# Altium footprint library HD2.PcbLib: 40 footprints (part 2 of 3)
Each footprint in its own frame and in the unit in brackets; x right, y up, seen from the top. Pads: shape width x height; smd on the part's side, far side on the other; paste and mask are expansions set on the pad; w line width, h text height; cw(c..) or ccw(c..) is an arc to the next point about the centre after c.
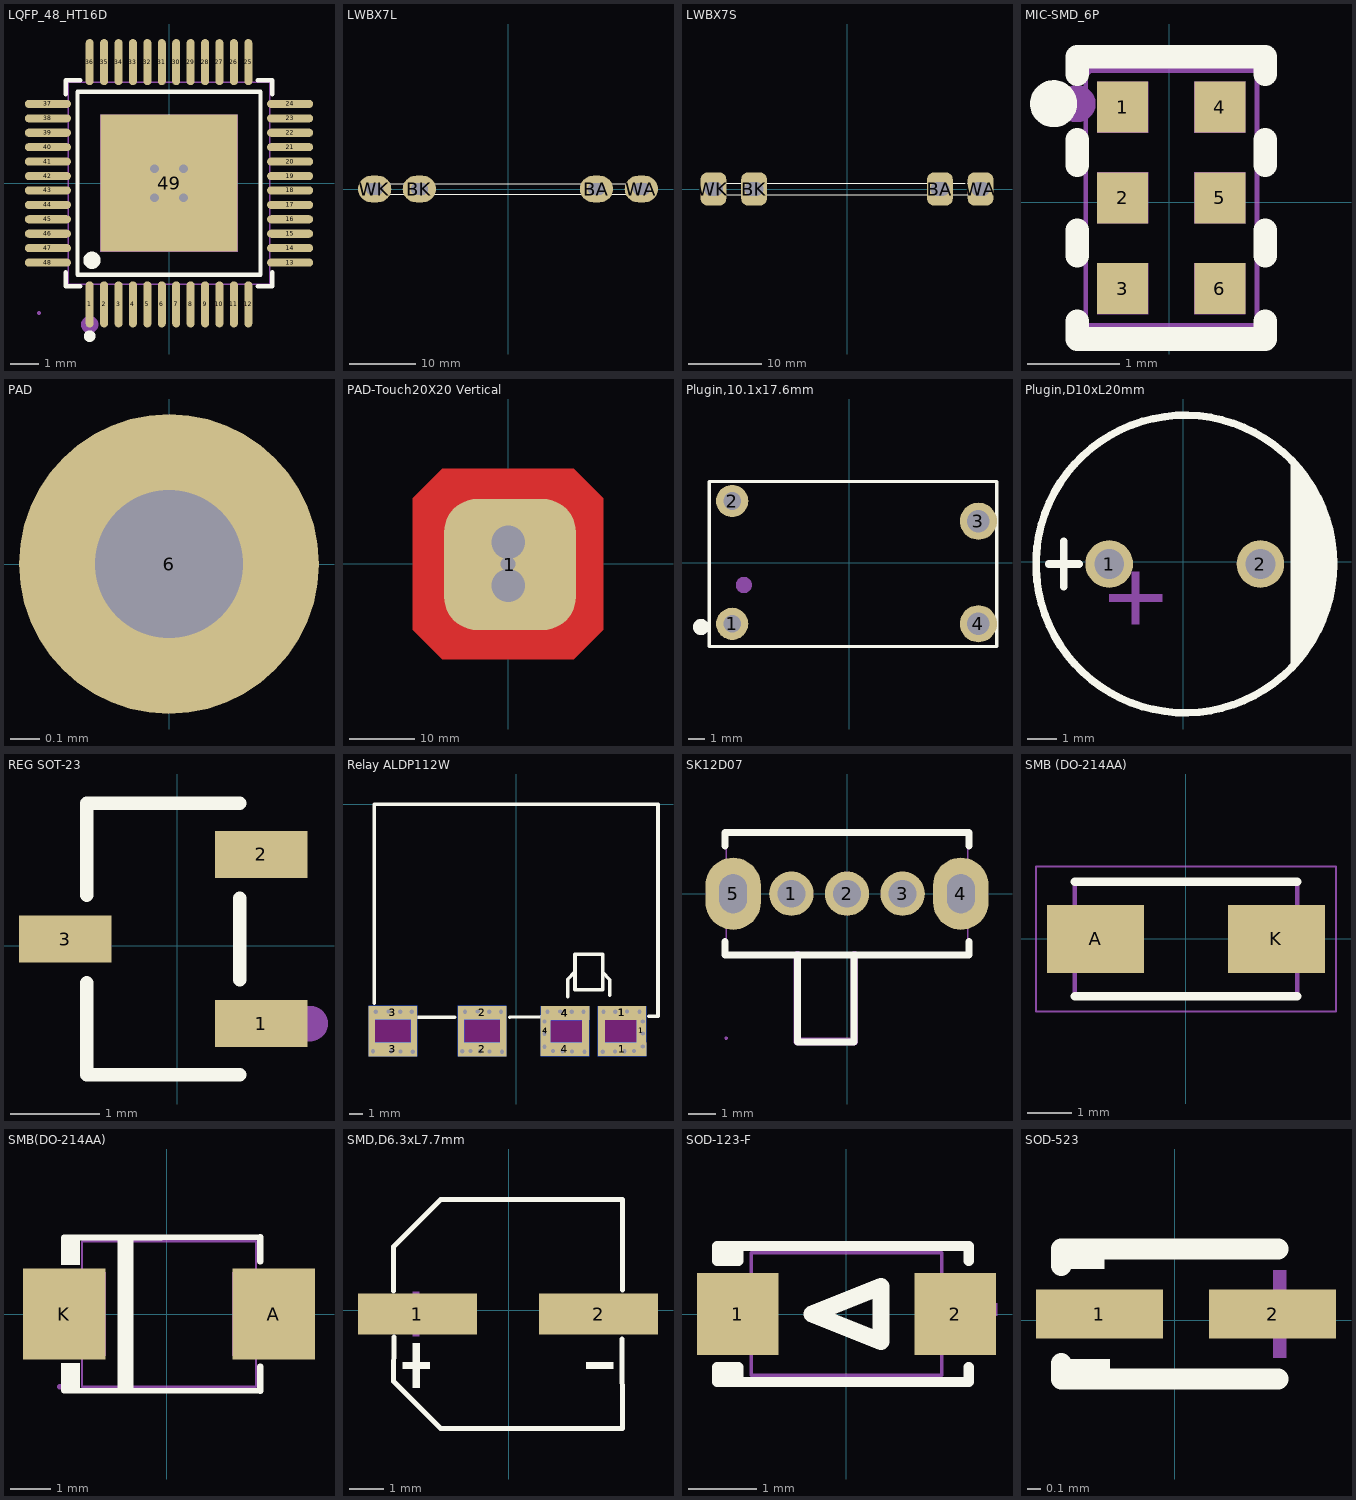
[diagram p1: the footprints below, top view; thin cyan lines are the x and y axes]

## LQFP_48_HT16D [mm]
pads (49):
  oval 0.28x1.6 smd paste-100 mask+0.051: 1(-2.75,-4.2) 2(-2.25,-4.2) 3(-1.75,-4.2) 4(-1.25,-4.2) 5(-0.75,-4.2) 6(-0.25,-4.2) 7(0.25,-4.2) 8(0.75,-4.2) 9(1.25,-4.2) 10(1.75,-4.2) 11(2.25,-4.2) 12(2.75,-4.2) 25(2.75,4.2) 26(2.25,4.2) 27(1.75,4.2) 28(1.25,4.2) 29(0.75,4.2) 30(0.25,4.2) 31(-0.25,4.2) 32(-0.75,4.2) 33(-1.25,4.2) 34(-1.75,4.2) 35(-2.25,4.2) 36(-2.75,4.2)
  oval 1.6x0.28 smd paste-100 mask+0.051: 13(4.2,-2.75) 14(4.2,-2.25) 15(4.2,-1.75) 16(4.2,-1.25) 17(4.2,-0.75) 18(4.2,-0.25) 19(4.2,0.25) 20(4.2,0.75) 21(4.2,1.25) 22(4.2,1.75) 23(4.2,2.25) 24(4.2,2.75) 37(-4.2,2.75) 38(-4.2,2.25) 39(-4.2,1.75) 40(-4.2,1.25) 41(-4.2,0.75) 42(-4.2,0.25) 43(-4.2,-0.25) 44(-4.2,-0.75) 45(-4.2,-1.25) 46(-4.2,-1.75) 47(-4.2,-2.25) 48(-4.2,-2.75)
  rect 4.75x4.75 smd paste-100 mask+0.051: 49(0,0)
via 0.5,0.5 diameter 0.61 hole 0.305
via -0.5,0.5 diameter 0.61 hole 0.305
via -0.5,-0.5 diameter 0.61 hole 0.305
via 0.5,-0.5 diameter 0.61 hole 0.305
Top Overlay:
  circle w0.2: c-2.75,-5.3 r0.1
  circle w0.3: c-2.671,-2.671 r0.15
  lines w0.152: -3.576,-3.081 -3.576,-3.576 -3.081,-3.576 ; -3.576,3.081 -3.576,3.576 -3.081,3.576 ; 3.081,-3.576 3.576,-3.576 3.576,-3.081 ; 3.081,3.576 3.576,3.576 3.576,3.081 ; -3.171,-3.171 -3.171,3.171 3.171,3.171 3.171,-3.171 -3.171,-3.171
Top Paste:
  drawing of 49 lines, arcs and shapes, not listed
Mechanical 6:
  circle w0.3: c-2.75,-4.9 r0.15
Mechanical 15:
  drawing of 102 lines, arcs and shapes, not listed

## LWBX7L [mm]
pads (4):
  oval 5x4 hole 1.8 slot 2.55 at 0 deg: BA(13.271,0) BK(-13.301,0) WA(20.002,0) WK(-20.002,0)
Top Overlay:
  lines w0.127: -20.802,-0.8 20.802,-0.8 ; -20.802,-0.8 -20.802,0.8 ; -20.802,-0.8 -19.203,-0.8 -19.203,0.8 -20.802,0.8 ; -20.802,0.8 20.802,0.8 ; 20.802,-0.8 20.802,0.8 ; 20.802,-0.8 19.203,-0.8 19.203,0.8 20.802,0.8 ; -14.101,-0.8 -14.101,0.8 -12.502,0.8 -12.502,-0.8 -14.101,-0.8 ; 12.472,-0.8 12.472,0.8 14.071,0.8 14.071,-0.8 12.472,-0.8

## LWBX7S [mm]
pads (4):
  rrect50% 3.5x4.5 hole 1.8 slot 2.55 at 0 deg: BA(12.68,0) BK(-12.71,0) WA(18.22,0) WK(-18.25,0)
Top Overlay:
  lines w0.127: -19.049,-0.8 -17.45,-0.8 -17.45,0.8 -19.049,0.8 ; -19.049,-0.8 -19.049,0.8 ; -19.049,-0.8 19.019,-0.8 ; -19.049,0.8 19.019,0.8 ; 19.019,-0.8 17.42,-0.8 17.42,0.8 19.019,0.8 ; 19.019,-0.8 19.019,0.8 ; -13.51,-0.8 -11.91,-0.8 -11.91,0.8 -13.51,0.8 -13.51,-0.8 ; 11.88,-0.8 13.48,-0.8 13.48,0.8 11.88,0.8 11.88,-0.8

## MIC-SMD_6P [mm]
pads (6):
  rect 0.55x0.55 smd: 1(-0.501,1.029) 2(-0.501,0.049) 3(-0.501,-0.931) 4(0.549,1.029) 5(0.549,0.049) 6(0.549,-0.931)
Top Overlay:
  circle w0.254: c-1.246,1.065 r0.127
  lines w0.254: -0.992,-1.283 -0.992,-1.475 1.04,-1.475 1.04,-1.283 ; -0.992,-0.579 -0.992,-0.303 ; -0.992,0.401 -0.992,0.677 ; -0.992,1.381 -0.992,1.573 1.04,1.573 1.04,1.381 ; 1.04,-0.579 1.04,-0.303 ; 1.04,0.401 1.04,0.677
Mechanical 6:
  circle w0.2: c-0.992,1.065 r0.1
Mechanical 15:
  region: -0.841,1.424 -0.841,1.449 -0.876,1.484 -0.926,1.484 -0.961,1.449 -0.961,1.424 -0.961,1.399 -0.926,1.364 -0.876,1.364 -0.841,1.399
  region: 0.824,-1.206 0.274,-1.206 0.274,-0.656 0.824,-0.656
  region: 0.824,-0.226 0.274,-0.226 0.274,0.324 0.824,0.324
  region: 0.824,0.754 0.274,0.754 0.274,1.304 0.824,1.304
  region: -0.776,-0.656 -0.226,-0.656 -0.226,-1.206 -0.776,-1.206
  region: -0.776,0.324 -0.226,0.324 -0.226,-0.226 -0.776,-0.226
  region: -0.776,1.304 -0.226,1.304 -0.226,0.754 -0.776,0.754
  lines w0.051: -0.901,-1.326 -0.901,1.424 0.949,1.424 0.949,-1.326 -0.901,-1.326

## PAD [mil]
pads (1):
  round 40 hole 19.68: 6(0,0)

## PAD-Touch20X20 Vertical [mil]
pads (4):
  rrect50% 790x787.4 smd mask-15: 1(11,-4)
  round 20 hole 200: 3(0,-130) 3(0,130)
  rect 10x10 hole 90 square: 3(0,-1)
Top Layer:
  pour cut-out: 393.55,569.01 569.01,393.55 569.01,-395.55 393.55,-571.01 -395.55,-571.01 -571.01,-395.55 -571.01,393.55 -395.55,569.01
Bottom Overlay:
  lines w5.98: -90.26,38.53 -45.51,38.53 ; -88.26,-39.47 -43.51,-39.47 ; 42.74,37.53 87.49,37.53 ; 43.74,-38.47 88.49,-38.47
Keep-Out Layer:
  board cut-out: -40.68,1 -40.7,6.46 -37.92,17.02 -32.49,26.49 -24.79,34.23 -15.34,39.71 -4.8,42.54 6.12,42.54 16.67,39.71 26.11,34.23 33.82,26.49 39.24,17.02 42.03,6.46 42,1 42.03,-4.46 39.24,-15.02 33.82,-24.49 26.11,-32.23 16.67,-37.71 6.12,-40.54 -4.8,-40.54 -15.34,-37.71 -24.79,-32.23 -32.49,-24.49 -37.92,-15.02 -40.7,-4.46
Keep-Out Layer:
  lines w10: -80.15,-61.74 ccw(c-11,-130) 59.22,-62.85 ; -79.32,-60.83 ccw(c-174.11,0.91) -76.68,58.4 cw(c-11,130) 58.57,62.17 ccw(c152.69,0.18) 59.25,-62.82
Mechanical 15:
  rectangle: -376,499 374.86,548.14
  region: -339.21,-517.61 -515.39,-341.43 -550.14,-376.18 -373.96,-552.36
  region: 374.18,-501 -376.68,-501 -376.68,-550.14 374.18,-550.14
  region: 515.61,-339.21 339.43,-515.39 374.18,-550.14 550.36,-373.96
  region: 337.21,515.61 513.39,339.43 548.14,374.18 371.96,550.36
  region: -517.43,337.21 -341.25,513.39 -376,548.14 -552.18,371.96
  region: 499,374.18 499,-376.68 548.14,-376.68 548.14,374.18
  region: -501,-376.18 -501,374.68 -550.14,374.68 -550.14,-376.18
  lines w10: -552.18,-373.96 -552.18,371.96 -376,548.14 374,548.14 550.18,371.96 550.18,-373.96 374,-550.14 -376,-550.14 -552.18,-373.96

## Plugin,10.1x17.6mm [mm]
pads (4):
  round 2 hole 1.1 paste-2539.97 mask+0.051: 1(-7.239,-3.79) 2(-7.239,3.81)
  round 2.3 hole 1.4 paste-2539.97 mask+0.051: 3(8.001,2.56) 4(8.001,-3.79)
Top Overlay:
  circle w0.5: c-9.169,-3.99 r0.25
  lines w0.203: -8.659,-5.19 9.141,-5.19 9.141,5.011 -8.659,5.011 -8.659,-5.19
Mechanical 15:
  circle w0.5: c-6.519,-1.39 r0.25

## Plugin,D10xL20mm [mm]
pads (2):
  round 1.6 hole 1 paste-2539.97 mask+0.051: 1(-2.488,-0.08) 2(2.592,-0.08)
Top Overlay:
  circle w0.254: c0.052,-0.08 r5
  region: 3.608,3.476 3.608,-3.636 4.37,-2.62 4.878,-1.096 5.132,0.428 4.878,1.444
  lines w0.254: -4.52,-0.08 -3.504,-0.08 ; -4.012,-0.842 -4.012,0.682
Mechanical 15:
  region: -2.488,-1.096 -0.71,-1.096 -0.71,-1.35 -2.488,-1.35
  region: -1.726,-0.842 -1.726,-2.112 -1.472,-2.112 -1.472,-0.334 -1.726,-0.334

## REG SOT-23 [mm]
pads (3):
  rect 1.037x0.532 smd paste+0 mask+0.051: 1(0.943,-0.872) 2(0.943,1.028) 3(-1.259,0.078)
Top Overlay:
  lines w0.152: -1.017,-0.416 -1.017,-1.448 0.701,-1.448 ; -1.017,0.573 -1.017,1.605 0.701,1.605 ; 0.701,-0.377 0.701,0.534
Mechanical 15:
  circle w0.2: c1.492,-0.872 r0.1

## Relay ALDP112W [mil]
pads (71):
  rect 19.68x78.74 smd paste-99999 mask+2: 1(242.58,-643.64) 4(197.63,-643.96)
  rect 19.68x78.74 smd far side paste-99999 mask+2: 1(242.58,-643.64) 4(197.63,-643.96)
  round 20 hole 12: 1(246.2,-703.7) 1(248.82,-589.76) 1(281.32,-702.88) 1(281.89,-589.76) 1(308.02,-702.06) 1(314.96,-588.98) 1(335.43,-701.57) 1(351.18,-589.76) 1(359.84,-688.98) 1(359.84,-651.97) 1(359.84,-617.32) 2(-153.54,-702.36) 2(-145.62,-590.08) 2(-129.88,-701.89) 2(-109.4,-589.29) 2(-102.47,-702.38) 2(-76.33,-590.08) 2(-75.76,-703.2) 2(-43.26,-590.08) 2(-40.64,-704.02) 3(-407.24,-702.36) 3(-399.32,-590.08) 3(-363.1,-589.29) 3(-356.17,-702.38) 3(-330.03,-590.08) 3(-329.46,-703.2) 3(-296.96,-590.08) 3(-294.34,-704.02) 4(80.37,-689.29) 4(80.37,-652.29) 4(80.37,-617.64) 4(89.03,-590.08) 4(104.78,-701.89) 4(125.25,-589.29) 4(132.19,-702.38) 4(158.32,-590.08) 4(158.89,-703.2) 4(191.39,-590.08) 4(194.02,-704.02)
  rect 137.8x39.37 smd paste-99999 mask+2: 1(301.09,-593.24) 1(301.63,-696.53) 2(-97.02,-696.93) 2(-97.02,-592.99) 3(-350.72,-696.93) 3(-350.72,-592.99) 4(138.58,-696.85) 4(139.12,-593.56)
  rect 137.8x39.37 smd far side paste-99999 mask+2: 1(301.32,-593.4) 1(301.63,-696.53) 2(-97.02,-696.93) 2(-97.02,-592.99) 3(-350.72,-696.93) 3(-350.72,-592.99) 4(138.58,-696.85) 4(138.89,-593.72)
  rect 27.56x78.74 smd paste-99999 mask+2: 1(356.29,-643.96) 4(83.46,-644.09)
  rect 27.56x78.74 smd far side paste-99999 mask+2: 1(356.29,-643.96) 4(83.35,-644.73)
  rect 17.72x78.74 smd paste-99999 mask+2: 2(-157.02,-643.96) 2(-37.02,-643.96) 3(-410.72,-643.96) 3(-290.72,-643.96)
  rect 17.72x78.74 smd far side paste-99999 mask+2: 2(-157.02,-643.96) 2(-37.02,-643.96) 3(-290.72,-643.96)
  rect 17.72x66.93 smd far side paste-99999 mask+2: 3(-410.72,-643.96)
Top Overlay:
  lines w10: -403.54,-566.14 -403.54,0 403.54,0 403.54,-602.36 377.7,-602.36 ; -280.02,-605.96 -175.19,-604.96 ; -18.02,-604.96 69.81,-603.96 ; 146.73,-547.7 146.73,-497.29 167.37,-476.91 ; 245.95,-477.57 266.73,-498.35 266.73,-542.7 ; 167.36,-426.13 167.38,-527.7 246.08,-527.7 246.08,-427.7 246.1,-426.13 167.36,-426.13
Keep-Out Layer:
  board cut-out: -411.42,-681.78 -297.72,-681.78 -297.72,-608.2 -411.42,-608.2
  board cut-out: 94.49,-681.85 194.49,-681.85 194.49,-608.2 94.49,-608.2
  board cut-out: -155.26,-681.85 -42.76,-681.85 -42.76,-608.2 -155.26,-608.2
  board cut-out: 246.46,-681.78 345.67,-681.78 345.67,-608.12 246.46,-608.12
Keep-Out Layer:
  lines w3: -411.42,-681.78 -297.72,-681.78 -297.72,-608.2 -411.42,-608.2 -411.42,-681.78 ; -155.26,-681.85 -42.76,-681.85 -42.76,-608.2 -155.26,-608.2 -155.26,-681.85 ; 94.49,-681.85 194.49,-681.85 194.49,-608.2 94.49,-608.2 94.49,-681.85 ; 246.46,-681.78 345.67,-681.78 345.67,-608.12 246.46,-608.12 246.46,-681.78
3D body "Relay.step": height 283.46, standoff -118.9, extent -403.54,-679.06 403.54,-613.26
3D body: height 283.46, standoff 0, extent -402.69,-602.35 402.03,-0.65

## SK12D07 [mm]
pads (5):
  round 1.6 hole 1: 1(-2,0) 2(0,0) 3(2,0)
  oval 2x2.6 hole 1 slot 1.4 at 90 deg: 4(4.1,0) 5(-4.1,0)
Top Overlay:
  lines w0.254: -4.4,-1.715 -4.4,-2.2 4.4,-2.2 4.4,-1.715 ; -4.4,1.715 -4.4,2.2 4.4,2.2 4.4,1.715 ; -1.784,-2.2 -1.784,-5.334 0.254,-5.334 0.254,-2.2
Mechanical 6:
  region: -1.657,-2.2 -1.657,-5.207 0.127,-5.207 0.127,-2.2 0.127,-2.147 0.201,-2.073 0.307,-2.073 0.381,-2.147 0.381,-2.2 0.381,-5.334 0.381,-5.359 0.362,-5.406 0.326,-5.442 0.279,-5.461 0.254,-5.461 -1.784,-5.461 -1.809,-5.461 -1.856,-5.442 -1.891,-5.406 -1.911,-5.359 -1.911,-5.334 -1.911,-2.2 -1.911,-2.147 -1.836,-2.073 -1.731,-2.073 -1.657,-2.147
Mechanical 15:
  region: -4.35,-0.6 -4.35,0.6 -3.95,0.6 -3.95,-0.6
  region: 3.95,-0.6 3.95,0.6 4.35,0.6 4.35,-0.6
  region: -1.75,0.15 -1.75,-0.15 -2.25,-0.15 -2.25,0.15
  region: 0.25,0.15 0.25,-0.15 -0.25,-0.15 -0.25,0.15
  region: 2.25,0.15 2.25,-0.15 1.75,-0.15 1.75,0.15
  region: -4.29,-5.2 -4.291,-5.176 -4.326,-5.141 -4.374,-5.141 -4.409,-5.176 -4.41,-5.2 -4.409,-5.225 -4.374,-5.259 -4.326,-5.259 -4.291,-5.225
  lines w0.051: -4.35,-2.2 -1.815,-2.2 -1.815,-5.2 0.185,-5.2 0.185,-2.2 4.35,-2.2 4.35,2.2 -4.35,2.2 -4.35,-2.2

## SMB (DO-214AA) [mm]
pads (2):
  rect 2.2x1.55 smd: A(-2.05,0) K(2.05,0)
Top Overlay:
  lines w0.2: -2.52,-1.298 2.52,-1.298 ; -2.52,1.298 2.52,1.298
Mechanical 15:
  lines w0.1: -2.52,-1.298 2.52,-1.298 2.52,1.298 -2.52,1.298 -2.52,-1.298
Mechanical 20:
  lines w0.05: -3.4,-1.645 3.4,-1.645 3.4,1.645 -3.4,1.645 -3.4,-1.645

## SMB(DO-214AA) [mm]
pads (2):
  rect 2.047x2.241 smd paste+0 mask+0.051: A(2.65,0) K(-2.532,0)
Top Overlay:
  region: -2.608,-1.905 -2.608,-1.215 -2.151,-1.215 -2.151,-1.905
  region: -2.608,1.905 -2.608,1.215 -2.151,1.215 -2.151,1.905
  region: -1.211,1.892 -1.211,-1.895 -0.83,-1.895 -0.83,1.893
  lines w0.152: -2.538,1.889 2.312,1.905 2.316,1.905 2.316,1.301 ; -2.534,-1.892 2.316,-1.905 2.316,-1.301
Mechanical 6:
  region: -3.433,-0.127 -3.433,0.127 -1.782,0.127 -1.782,-0.127
  region: 2.783,-0.828 2.529,-0.828 2.529,0.823 2.783,0.823
  region: 1.83,-0.129 1.83,0.125 3.481,0.125 3.481,-0.129
Mechanical 15:
  region: -2.581,-1.8 -2.581,-1.775 -2.616,-1.74 -2.666,-1.74 -2.701,-1.775 -2.701,-1.8 -2.701,-1.825 -2.666,-1.86 -2.616,-1.86 -2.581,-1.825
  region: -2.641,1.037 -1.501,1.037 -1.501,-1.037 -2.641,-1.037
  region: 2.759,-1.037 1.619,-1.037 1.619,1.038 2.759,1.038
  lines w0.051: -2.091,-1.8 -2.091,1.8 2.209,1.8 2.209,-1.8 -2.091,-1.8

## SMD,D6.3xL7.7mm [mm]
pads (2):
  rect 3.5x1.2 smd paste+0 mask+0.051: 1(-2.695,-0.104) 2(2.645,-0.104)
Top Overlay:
  region: -2.83,-0.962 -2.83,-2.282 -2.632,-2.282 -2.632,-0.962
  region: -3.127,-1.523 -3.127,-1.721 -2.335,-1.721 -2.335,-1.523
  region: 3.077,-1.523 3.077,-1.721 2.285,-1.721 2.285,-1.523
  lines w0.152: -3.401,0.582 -3.401,1.876 -2.005,3.272 3.351,3.272 3.344,0.604 ; -3.387,-0.79 -3.401,-2.085 -2.006,-3.48 3.351,-3.48 3.331,-0.843
Mechanical 15:
  region: -2.835,0.556 -2.835,-0.764 -2.637,-0.764 -2.637,0.556
  region: -3.127,-0.005 -3.127,-0.203 -2.335,-0.203 -2.335,-0.005
  region: 3.077,-0.005 3.077,-0.203 2.285,-0.203 2.285,-0.005

## SOD-123-F [mm]
pads (2):
  rect 1.2x1.2 smd paste+0 mask+0.051: 1(-1.6,0) 2(1.6,0)
Top Overlay:
  lines w0.152: -1.791,-1 -1.791,-0.78 ; -1.791,0.78 -1.791,1 ; -1.691,-1 -1.691,-0.78 ; -1.691,0.78 -1.691,1 ; -1.591,-1 -1.591,-0.78 -1.9,-0.78 -1.9,-1 1.6,-1 1.8,-1 1.8,-0.78 ; -1.591,1 -1.591,0.78 -1.9,0.78 -1.9,1 1.4,1 ; 1.2,1 1.8,1 1.8,0.78
  lines w0.254: -0.508,0 0.508,-0.406 0.508,0.406 -0.508,0
Mechanical 6:
  region: 1.656,-0.436 1.656,0.444 1.836,0.444 1.836,-0.436
  region: 2.216,-0.024 1.336,-0.024 1.336,0.156 2.216,0.156
  region: -1.314,-0.094 -2.194,-0.094 -2.194,0.086 -1.314,0.086
Mechanical 15:
  region: -1.85,0.475 -1.05,0.475 -1.05,-0.475 -1.85,-0.475
  region: 1.05,0.475 1.85,0.475 1.85,-0.475 1.05,-0.475
  region: -1.79,-0.9 -1.79,-0.875 -1.825,-0.84 -1.875,-0.84 -1.91,-0.875 -1.91,-0.9 -1.91,-0.925 -1.875,-0.96 -1.825,-0.96 -1.79,-0.925
  lines w0.051: -1.4,-0.9 1.4,-0.9 1.4,0.9 -1.4,0.9 -1.4,-0.9

## SOD-523 [mm]
pads (2):
  rect 0.93x0.36 smd paste+0 mask+0.051: 1(-0.551,0.044) 2(0.719,0.044)
Top Overlay:
  region: -0.476,-0.508 -0.476,-0.288 -0.78,-0.288 -0.78,-0.508
  region: -0.516,0.597 -0.516,0.377 -0.821,0.377 -0.821,0.597
  lines w0.152: -0.83,-0.319 -0.83,-0.431 -0.592,-0.431 0.76,-0.432 ; -0.83,0.4 -0.83,0.521 -0.592,0.521 0.76,0.521
Mechanical 15:
  region: 0.82,0.364 0.82,-0.276 0.724,-0.276 0.724,0.364
  region: 0.964,0.092 0.964,-0.004 0.58,-0.004 0.58,0.092
  region: -0.803,0.099 -0.803,0.003 -0.419,0.003 -0.419,0.099